# Altium footprint library Capacitors$.PcbLib: 48 footprints (part 1 of 3)
Each footprint in its own frame and in the unit in brackets; x right, y up, seen from the top. Pads: shape width x height; smd on the part's side, far side on the other; paste and mask are expansions set on the pad; w line width, h text height; cw(c..) or ccw(c..) is an arc to the next point about the centre after c.
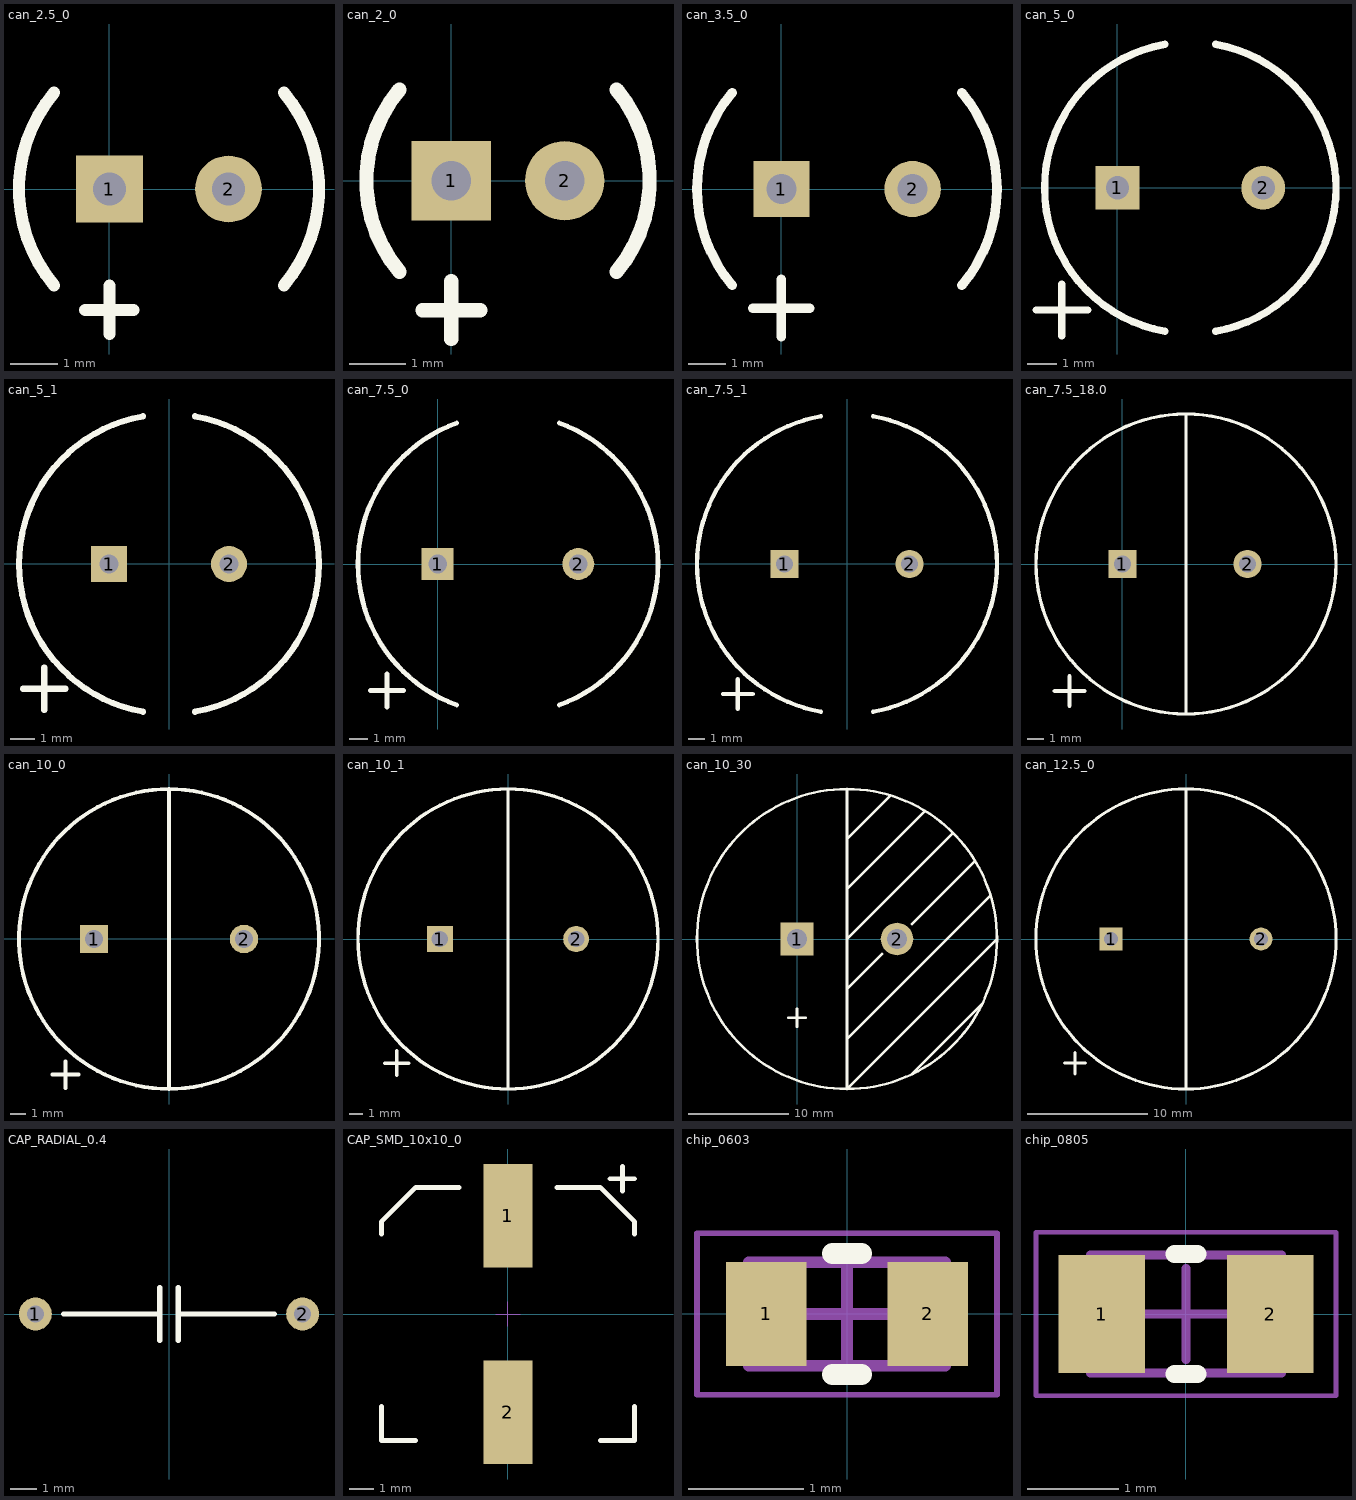
[diagram p0: the footprints below, top view; thin cyan lines are the x and y axes]

## can_2.5_0 [mm] "2 Leaded Al Cap, 2.5mm spacing, 6.3mm diameter"
height 20
pads (2):
  rect 1.4x1.4 hole 0.7: 1(0,0)
  round 1.4 hole 0.7: 2(2.5,0)
Top Overlay:
  lines w0.254: -1.163,-2.025 cw(c1.25,0) -1.163,2.025 ; -0.508,-2.54 0.508,-2.54 ; 0,-3.048 0,-2.032 ; 3.663,-2.025 ccw(c1.25,0) 3.663,2.025

## can_2_0 [mm] "2 Leaded Al Cap, 2mm spacing, 5mm diameter"
height 20
pads (2):
  rect 1.4x1.4 hole 0.7: 1(0,0)
  round 1.4 hole 0.7: 2(2,0)
Top Overlay:
  lines w0.254: -0.915,-1.607 cw(c1,0) -0.915,1.607 ; -0.508,-2.286 0.508,-2.286 ; 0,-2.794 0,-1.778 ; 2.915,-1.607 ccw(c1,0) 2.915,1.607

## can_3.5_0 [mm] "2 Leaded Al Cap, 3.5mm spacing, 8mm diameter"
height 20
pads (2):
  rect 1.5x1.5 hole 0.8: 1(0,0)
  round 1.5 hole 0.8: 2(3.5,0)
Top Overlay:
  lines w0.254: -1.314,-2.571 cw(c1.75,0) -1.314,2.571 ; -0.762,-3.175 0.762,-3.175 ; 0,-3.937 0,-2.413 ; 4.814,-2.571 ccw(c1.75,0) 4.814,2.571

## can_5_0 [mm] "2 Leaded Al Cap, 5mm spacing, 10mm diameter"
height 20
pads (2):
  rect 1.5x1.5 hole 0.8: 1(0,0)
  round 1.5 hole 0.8: 2(5,0)
Top Overlay:
  lines w0.254: -2.794,-4.191 -1.016,-4.191 ; -1.905,-5.08 -1.905,-3.302 ; 1.632,-4.924 cw(c2.5,0) 1.632,4.924 ; 3.368,-4.924 ccw(c2.5,0) 3.368,4.924
3D body: height 0.25, standoff -26.8, extent -2.54,0 -2.54,0
3D body: height 12.5, standoff 0, extent -2.46,-5 7.54,5

## can_5_1 [mm] "2 Leaded Al Cap, 5mm spacing, 12.5mm diameter"
height 20
pads (2):
  rect 1.5x1.5 hole 0.8: 1(-2.5,0)
  round 1.5 hole 0.8: 2(2.5,0)
Top Overlay:
  lines w0.254: -6.089,-5.2 -4.311,-5.2 ; -5.2,-6.089 -5.2,-4.311 ; -1.085,-6.155 cw(c0,0) -1.085,6.155 ; 1.085,-6.155 ccw(c0,0) 1.085,6.155
3D body: height 12.5, standoff 0, extent -6.25,-6.247 6.25,6.247

## can_7.5_0 [mm] "2 Leaded Al Cap, 7.5mm spacing, 16mm diameter"
height 20
pads (2):
  rect 1.7x1.7 hole 1: 1(0,0)
  round 1.7 hole 1: 2(7.5,0)
Top Overlay:
  lines w0.254: -3.589,-6.742 -1.811,-6.742 ; -2.7,-7.631 -2.7,-5.853 ; 1.014,-7.518 cw(c3.75,0) 1.014,7.518 ; 6.486,-7.518 ccw(c3.75,0) 6.486,7.518
3D body: height 25, standoff 0, extent -4.25,-8 11.75,8

## can_7.5_1 [mm] "2 Leaded Al Cap, 7.5mm spacing, 18mm diameter"
height 20
pads (2):
  rect 1.7x1.7 hole 1: 1(-3.75,0)
  round 1.7 hole 1: 2(3.75,0)
Top Overlay:
  lines w0.254: -7.439,-7.8 -5.661,-7.8 ; -6.55,-8.689 -6.55,-6.911 ; -1.563,-8.863 cw(c0,0) -1.563,8.863 ; 1.563,-8.863 ccw(c0,0) 1.563,8.863
3D body: height 18, standoff 0, extent -9,-8.997 9,8.997

## can_7.5_18.0 [mm] "7.5mm Lead Spacing, 18mm Dia."
pads (2):
  rect 1.7x1.7 hole 1: 1(0,0)
  round 1.7 hole 1: 2(7.5,0)
Top Overlay:
  circle w0.2: c3.81,0 r9
  lines w0.2: 3.81,-8.89 3.81,8.89
  lines w0.254: -4.064,-7.62 -2.286,-7.62 ; -3.175,-8.509 -3.175,-6.731
3D body: height 47.5, standoff 0, extent -5.2,-8.994 12.8,8.994

## can_10_0 [mm] "2 Leaded Al Cap, 10mm spacing, 20mm diameter"
height 20
pads (2):
  rect 1.9x1.9 hole 1.2: 1(-5,0)
  round 1.9 hole 1.2: 2(5,0)
Top Overlay:
  lines w0.25: 0,-10 0,10
  lines w0.254: -7.789,-9.039 -6.011,-9.039 ; -6.9,-9.928 -6.9,-8.15 ; 0,-10 ccw(c0,0) 0,10 ccw(c0,0) 0,-10
3D body: height 20, standoff 0, extent -10,-10 10,10

## can_10_1 [mm] "2 Leaded Al Cap, 10mm spacing, 22mm diameter"
height 20
pads (2):
  rect 1.9x1.9 hole 1.2: 1(-5,0)
  round 1.9 hole 1.2: 2(5,0)
Top Overlay:
  lines w0.25: 0,-11 0,11
  lines w0.254: -9.039,-9.1 -7.261,-9.1 ; -8.15,-9.989 -8.15,-8.211 ; 0,-11 cw(c0,0) 0,11 cw(c0,0) 0,-11
3D body: height 22, standoff 0, extent -11,-10.997 11,10.997

## can_10_30 [mm] "Cap, 10mm lead spacing, 30mm diameter"
pads (2):
  rect 3.25x3.25 hole 2: 1(0,0)
  round 3.25 hole 2: 2(10,0)
Top Overlay:
  lines w0.254: -0.889,-7.874 0.889,-7.874 ; 0,-8.763 0,-6.985 ; 5,-10 19.3,4.3 ; 5,-5 8.5,-1.5 ; 5,0 15.55,10.55 ; 5,5 12.75,12.75 ; 5,10 9.35,14.35 ; 11.5,-13.5 18.5,-6.5 ; 11.5,1.5 17.75,7.75 ; 19.95,-0.05 5,-15 ; 5,-15 cw(c5,0) 5,15 ; 5,-15 ccw(c5,0) 5,15 ; 5,-15 5,15
3D body: height 40, standoff 0, extent -10,-15 20,15

## can_12.5_0 [mm] "2 Leaded Al Cap, 12.5mm spacing, 25mm diameter"
height 20
pads (2):
  rect 1.9x1.9 hole 1.2: 1(-6.25,0)
  round 1.9 hole 1.2: 2(6.25,0)
Top Overlay:
  lines w0.25: 0,-12.5 0,12.5
  lines w0.254: -10.139,-10.35 -8.361,-10.35 ; -9.25,-11.239 -9.25,-9.461 ; 0,-12.5 ccw(c0,0) 0,12.5 ccw(c0,0) 0,-12.5
3D body: height 49.99, standoff 0, extent -12.422,-12.44 12.47,12.44
3D body: height 0.25, standoff -26.8, extent -12.473,0 -12.473,0

## CAP_RADIAL_0.4 [mm] "Like the 0.1uF's in the Glennan Circuits Lab"
pads (2):
  round 1.25 hole 0.65: 1(-5.08,0) 2(5.08,0)
Top Overlay:
  lines w0.2: -4,0 -0.35,0 ; -0.35,-1 -0.35,1 ; 0.35,-1 0.35,1 ; 0.35,0 4,0
3D body "CAP_RADIAL_0.4.SLDPRT": height 7.6, standoff -3.9, extent -5.5,-1.5 5.5,1.499

## CAP_SMD_10x10_0 [mm]
pads (2):
  rect 2x4.2 smd: 1(0,4) 2(0,-4)
Top Overlay:
  lines w0.2: -5.15,-3.75 -5.15,-5.15 -3.75,-5.15 ; -5.15,3.25 -5.15,3.75 -3.75,5.15 -2,5.15 ; 2,5.15 3.75,5.15 5.15,3.75 5.15,3.25 ; 3.75,-5.15 5.15,-5.15 5.15,-3.75 ; 4.15,5.5 5.15,5.5 ; 4.65,5 4.65,6
Mechanical 15:
  lines w0.05: -0.5,0 0.5,0 ; 0,-0.5 0,0.5
3D body "CAP_SMD_10x10_0.SLDPRT": height 10, standoff 0, extent -5.15,-5.15 5.15,5.15

## chip_0603 [mm]
height 0.6
pads (2):
  rect 0.7x0.9 smd: 1(-0.7,0) 2(0.7,0)
Top Overlay:
  lines w0.18: -0.125,-0.525 0.125,-0.525 ; -0.125,0.525 0.125,0.525
Mechanical 13:
  lines w0.1: -0.85,-0.45 -0.85,0.45 0.85,0.45 0.85,-0.45 -0.85,-0.45
Mechanical 15:
  lines w0.05: -1.3,-0.7 -1.3,0.7 1.3,0.7 1.3,-0.7 -1.3,-0.7
  lines w0.1: -0.45,0 0.45,0 ; 0,-0.45 0,0.45
3D body: height 0.6, standoff 0, extent -0.55,-0.45 0.55,0.45
3D body: height 0.6, standoff 0, extent -0.85,-0.45 -0.55,0.45
3D body: height 0.6, standoff 0, extent 0.55,-0.45 0.85,0.45

## chip_0805 [mm]
height 0.6
pads (2):
  rect 0.95x1.3 smd: 1(-0.925,0) 2(0.925,0)
Top Overlay:
  lines w0.2: -0.127,-0.66 0.127,-0.66 ; -0.127,0.66 0.127,0.66
Mechanical 13:
  lines w0.1: -1.05,-0.65 1.05,-0.65 1.05,0.65 -1.05,0.65 -1.05,-0.65
Mechanical 15:
  lines w0.05: -1.65,-0.9 1.65,-0.9 1.65,0.9 -1.65,0.9 -1.65,-0.9
  lines w0.1: -0.5,0 0.5,0 ; 0,-0.5 0,0.5
3D body: height 0.6, standoff 0, extent 0.6,-0.65 1.05,0.65
3D body: height 0.6, standoff 0, extent -1.05,-0.65 -0.6,0.65
3D body: height 0.6, standoff 0, extent -0.6,-0.65 0.6,0.65